# Altium integrated library Linear Technology PMIC-Switching Reg LTC1174-LTC3901.IntLib: 2647 symbols (part 50 of 310)
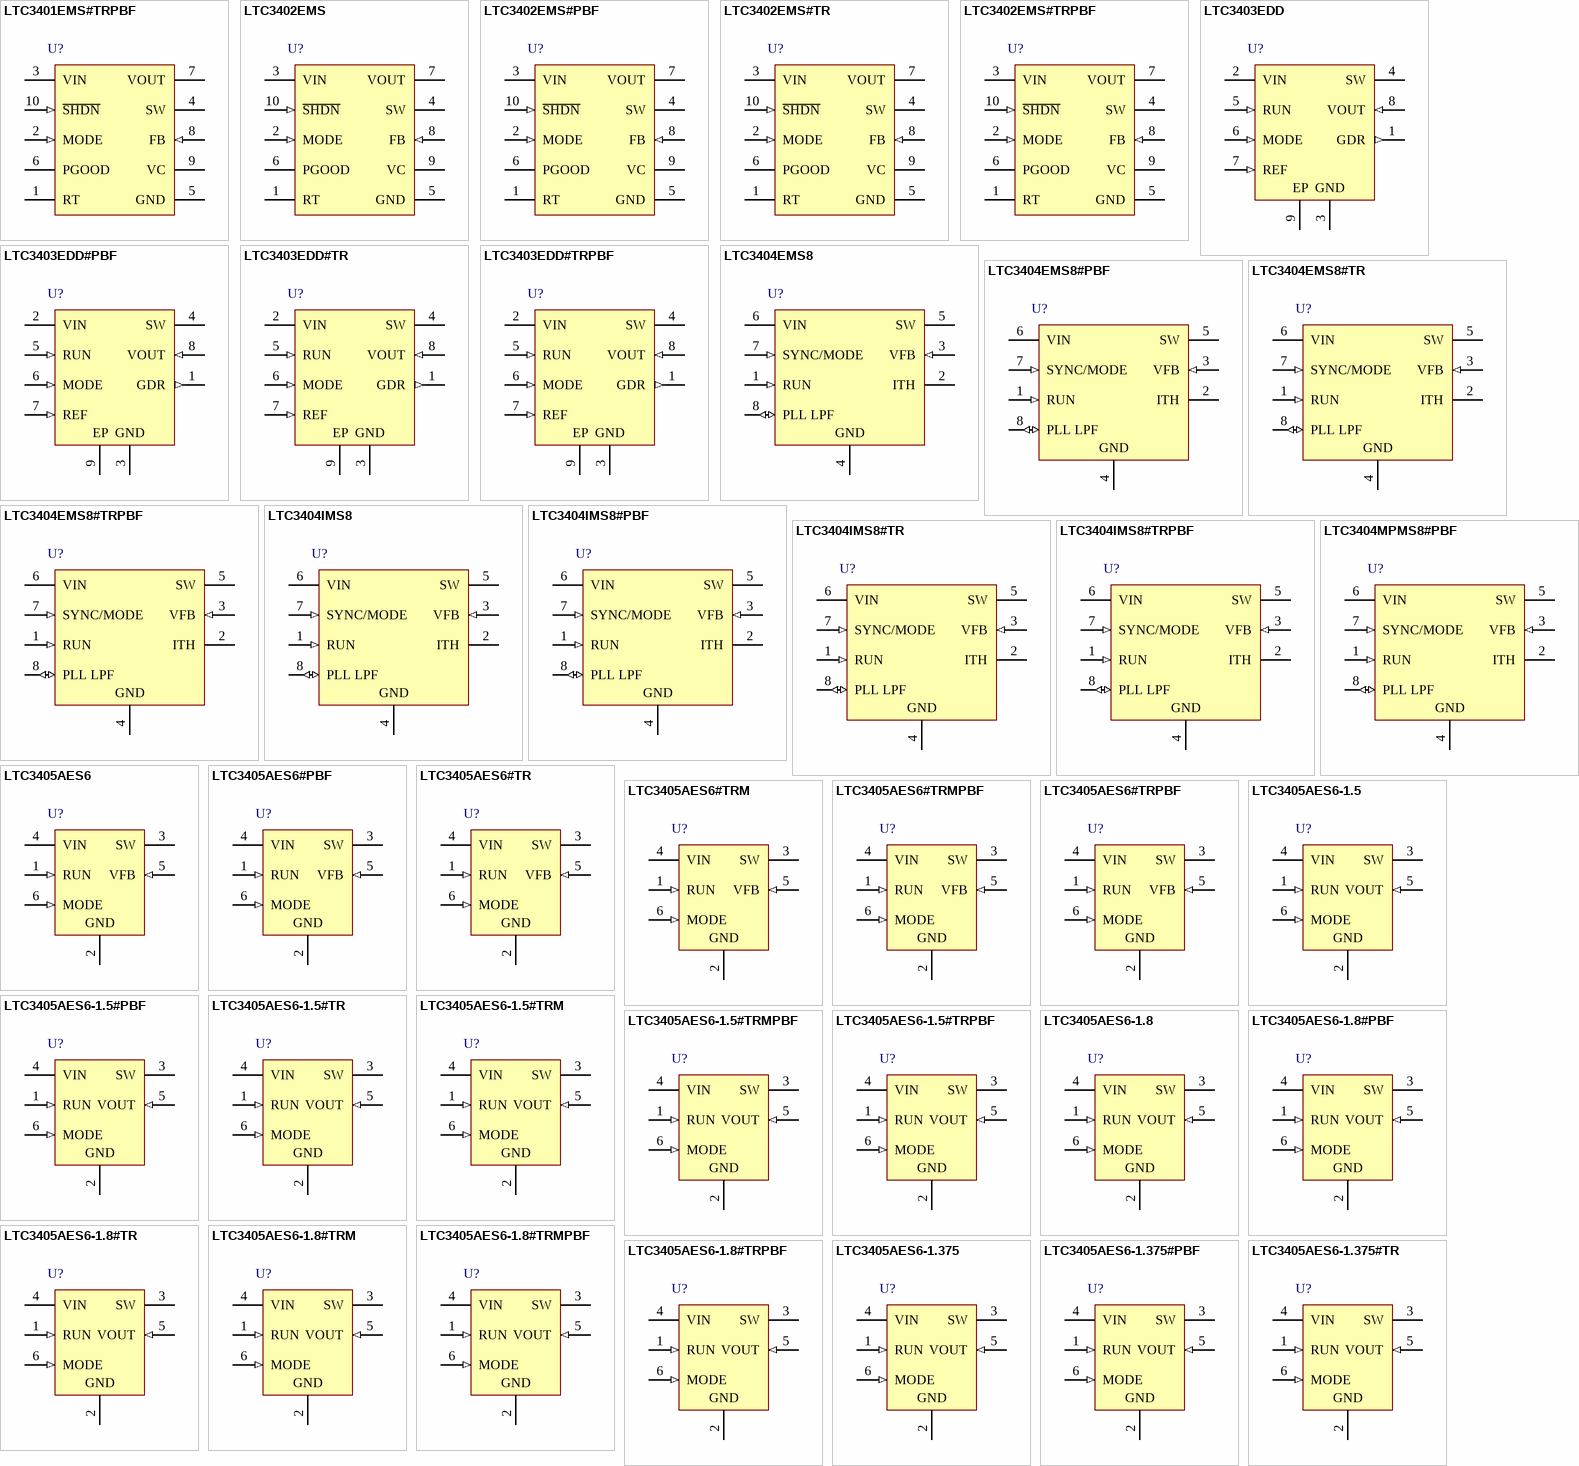
[diagram p245: symbols LTC3401EMS#TRPBF to LTC3405AES6-1.375#TR]

## LTC3405AES6-1.8
designator U?
1.5 MHz, 300 mA Synchronous Step-Down Regulator, 6-pin SOT23 (S6-6), -40 to 85 degC; Manufacturer: Linear Technology; PartNumber: LTC3405AES6-1.8; Number of Outputs: 1; PackageReference: S6-6; PackageDescription: 6-Pin Plastic TSOT-23, Body 2.9 x 1.63 mm, Pitch 0.95 mm; RoHS: FALSE; Code_JEDEC: MO-193
footprint LT-S6-6-TSOT-23_N (SOT23, 6-Leads, Body 2.9x1.75mm, Pitch 0.95mm, IPC Medium Density)
footprint LT-S6-6-TSOT-23_L (SOT23, 6-Leads, Body 2.9x1.75mm, Pitch 0.95mm, IPC High Density)
footprint LT-S6-6-TSOT-23_M (SOT23, 6-Leads, Body 2.9x1.75mm, Pitch 0.95mm, IPC Low Density)
pins: 1 RUN (in) "Run Control Input. Forcing this pin above 1.5V enables the part. Forcing this pin below 0.3V shuts down the device. In shutdown, all functions are disabled drawing <1uA supply current. Do not leave RUN floating.", 2 GND (power) "Ground Pin.", 3 SW (power) "Switch Node Connection to Inductor. This pin connects to the drains of the internal main and synchronous power MOSFET switches.", 4 VIN (power) "Main Supply Pin. Must be closely decoupled to GND, Pin 2, with a 2.2uF or greater ceramic capacitor.", 5 VOUT (in) "Output Voltage Feedback Pin. An internal resistive divider divides the output voltage down for comparison to the internal 1.2V/0.9V reference voltage.", 6 MODE (in) "Mode Select Input. To select pulse skipping mode, tie to VIN. Grounding this pin selects Burst Mode operation. Do not leave this pin floating."

## LTC3405AES6-1.8#PBF
designator U?
1.5 MHz, 300 mA Synchronous Step-Down Regulator, 6-pin SOT23 (S6-6), -40 to 85 degC, Pb-Free; Manufacturer: Linear Technology; PartNumber: LTC3405AES6-1.8#PBF; Number of Outputs: 1; PackageReference: S6-6; PackageDescription: 6-Pin Plastic TSOT-23, Body 2.9 x 1.63 mm, Pitch 0.95 mm; Supplier 1: Newark; Supplier Part Number 1: 78T3175; RoHS: TRUE; Code_JEDEC: MO-193
footprint LT-S6-6-TSOT-23_N (SOT23, 6-Leads, Body 2.9x1.75mm, Pitch 0.95mm, IPC Medium Density)
footprint LT-S6-6-TSOT-23_L (SOT23, 6-Leads, Body 2.9x1.75mm, Pitch 0.95mm, IPC High Density)
footprint LT-S6-6-TSOT-23_M (SOT23, 6-Leads, Body 2.9x1.75mm, Pitch 0.95mm, IPC Low Density)
pins: 1 RUN (in) "Run Control Input. Forcing this pin above 1.5V enables the part. Forcing this pin below 0.3V shuts down the device. In shutdown, all functions are disabled drawing <1uA supply current. Do not leave RUN floating.", 2 GND (power) "Ground Pin.", 3 SW (power) "Switch Node Connection to Inductor. This pin connects to the drains of the internal main and synchronous power MOSFET switches.", 4 VIN (power) "Main Supply Pin. Must be closely decoupled to GND, Pin 2, with a 2.2uF or greater ceramic capacitor.", 5 VOUT (in) "Output Voltage Feedback Pin. An internal resistive divider divides the output voltage down for comparison to the internal 1.2V/0.9V reference voltage.", 6 MODE (in) "Mode Select Input. To select pulse skipping mode, tie to VIN. Grounding this pin selects Burst Mode operation. Do not leave this pin floating."

## LTC3405AES6-1.8#TR
designator U?
1.5 MHz, 300 mA Synchronous Step-Down Regulator, 6-pin SOT23 (S6-6), -40 to 85 degC, Tape and Reel; Manufacturer: Linear Technology; PartNumber: LTC3405AES6-1.8#TR; Number of Outputs: 1; PackageReference: S6-6; PackageDescription: 6-Pin Plastic TSOT-23, Body 2.9 x 1.63 mm, Pitch 0.95 mm; Supplier 1: Digi-Key; Supplier Part Number 1: LTC3405AES6-1.8TR-ND; RoHS: FALSE; Code_JEDEC: MO-193
footprint LT-S6-6-TSOT-23_N (SOT23, 6-Leads, Body 2.9x1.75mm, Pitch 0.95mm, IPC Medium Density)
footprint LT-S6-6-TSOT-23_L (SOT23, 6-Leads, Body 2.9x1.75mm, Pitch 0.95mm, IPC High Density)
footprint LT-S6-6-TSOT-23_M (SOT23, 6-Leads, Body 2.9x1.75mm, Pitch 0.95mm, IPC Low Density)
pins: 1 RUN (in) "Run Control Input. Forcing this pin above 1.5V enables the part. Forcing this pin below 0.3V shuts down the device. In shutdown, all functions are disabled drawing <1uA supply current. Do not leave RUN floating.", 2 GND (power) "Ground Pin.", 3 SW (power) "Switch Node Connection to Inductor. This pin connects to the drains of the internal main and synchronous power MOSFET switches.", 4 VIN (power) "Main Supply Pin. Must be closely decoupled to GND, Pin 2, with a 2.2uF or greater ceramic capacitor.", 5 VOUT (in) "Output Voltage Feedback Pin. An internal resistive divider divides the output voltage down for comparison to the internal 1.2V/0.9V reference voltage.", 6 MODE (in) "Mode Select Input. To select pulse skipping mode, tie to VIN. Grounding this pin selects Burst Mode operation. Do not leave this pin floating."

## LTC3405AES6-1.8#TRM
designator U?
1.5 MHz, 300 mA Synchronous Step-Down Regulator, 6-pin SOT23 (S6-6), -40 to 85 degC, Mini Tape and Reel; Manufacturer: Linear Technology; PartNumber: LTC3405AES6-1.8#TRM; Number of Outputs: 1; PackageReference: S6-6; PackageDescription: 6-Pin Plastic TSOT-23, Body 2.9 x 1.63 mm, Pitch 0.95 mm; Supplier 1: Digi-Key; Supplier Part Number 1: LTC3405AES6-1.8#TRMCT-ND; RoHS: FALSE; Code_JEDEC: MO-193
footprint LT-S6-6-TSOT-23_N (SOT23, 6-Leads, Body 2.9x1.75mm, Pitch 0.95mm, IPC Medium Density)
footprint LT-S6-6-TSOT-23_L (SOT23, 6-Leads, Body 2.9x1.75mm, Pitch 0.95mm, IPC High Density)
footprint LT-S6-6-TSOT-23_M (SOT23, 6-Leads, Body 2.9x1.75mm, Pitch 0.95mm, IPC Low Density)
pins: 1 RUN (in) "Run Control Input. Forcing this pin above 1.5V enables the part. Forcing this pin below 0.3V shuts down the device. In shutdown, all functions are disabled drawing <1uA supply current. Do not leave RUN floating.", 2 GND (power) "Ground Pin.", 3 SW (power) "Switch Node Connection to Inductor. This pin connects to the drains of the internal main and synchronous power MOSFET switches.", 4 VIN (power) "Main Supply Pin. Must be closely decoupled to GND, Pin 2, with a 2.2uF or greater ceramic capacitor.", 5 VOUT (in) "Output Voltage Feedback Pin. An internal resistive divider divides the output voltage down for comparison to the internal 1.2V/0.9V reference voltage.", 6 MODE (in) "Mode Select Input. To select pulse skipping mode, tie to VIN. Grounding this pin selects Burst Mode operation. Do not leave this pin floating."